# Altium footprint library CPAV.PcbLib: 150 footprints (part 4 of 10)
Each footprint in its own frame and in the unit in brackets; x right, y up, seen from the top. Pads: shape width x height; smd on the part's side, far side on the other; paste and mask are expansions set on the pad; w line width, h text height; cw(c..) or ccw(c..) is an arc to the next point about the centre after c.
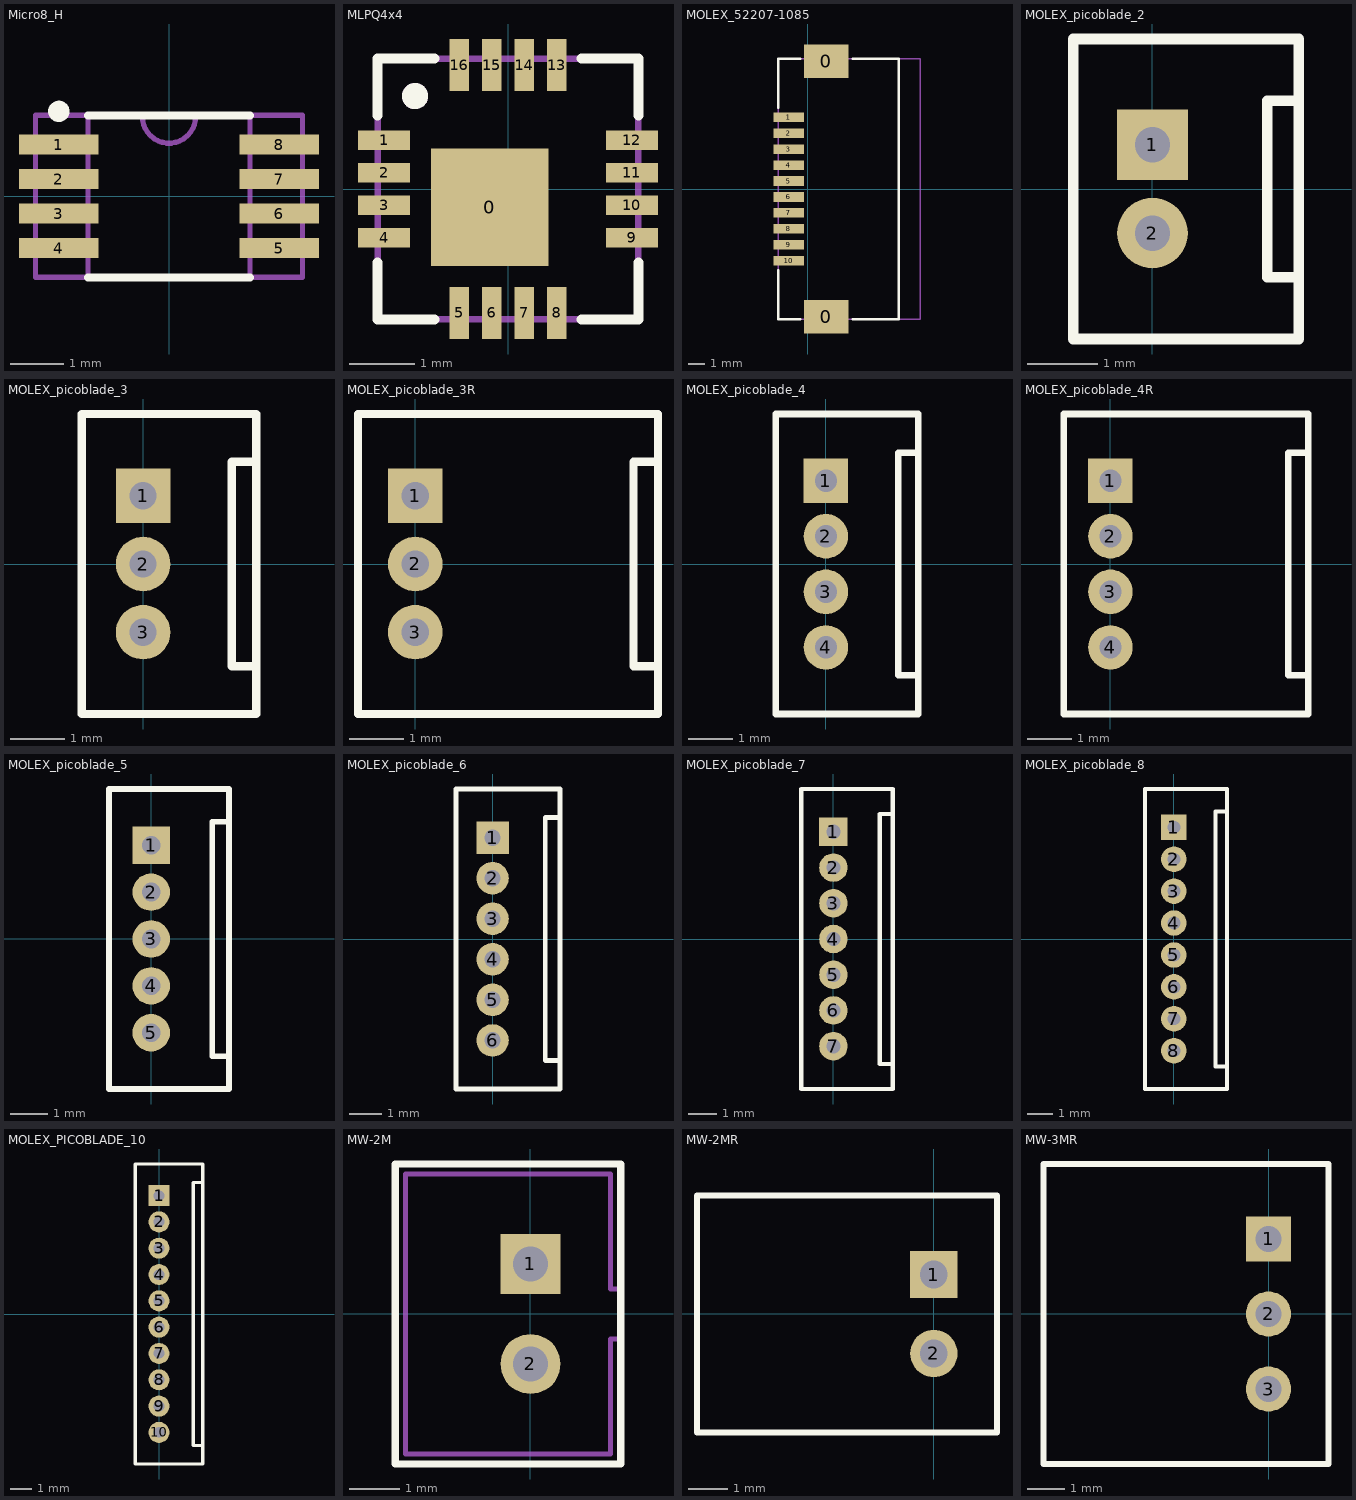
[diagram p3: the footprints below, top view; thin cyan lines are the x and y axes]

## Micro8_H [mm]
height 1.11
pads (8):
  rect 1.5x0.38 smd: 1(-2.075,0.975) 2(-2.075,0.325) 3(-2.075,-0.325) 4(-2.075,-0.975) 5(2.075,-0.975) 6(2.075,-0.325) 7(2.075,0.325) 8(2.075,0.975)
Top Overlay:
  circle w0.2: c-2.075,1.6 r0.1
  lines w0.15: -1.525,-1.525 1.525,-1.525 ; -1.525,1.525 1.525,1.525
Mechanical 7:
  lines w0.1: -1.525,-1.525 -1.525,1.525 ; -0.499,1.525 ccw(c0,1.5) 0.499,1.525 ; 1.525,-1.525 1.525,1.525 ; -2.515,-1.525 2.515,-1.525 2.515,1.525 -2.515,1.525 -2.515,-1.525
Mechanical 10:
  text ".Designator" at -0.67,2.04 h0.8
  text ".Comment" at -0.67,-2.26 h0.6
3D body: height 1.11, standoff 0, extent -1.525,-1.525 1.525,1.525
3D body: height 0.7, standoff 0, extent 1.525,-1.525 2.515,1.525
3D body: height 0.7, standoff 0, extent -2.515,-1.525 -1.525,1.525

## MLPQ4x4 [mm]
height 1
pads (17):
  rect 1.8x1.8 smd: 0(-0.28,-0.28)
  rect 0.8x0.3 smd: 1(-1.9,0.75) 2(-1.9,0.25) 3(-1.9,-0.25) 4(-1.9,-0.75) 9(1.9,-0.75) 10(1.9,-0.25) 11(1.9,0.25) 12(1.9,0.75)
  rect 0.3x0.8 smd: 5(-0.75,-1.9) 6(-0.25,-1.9) 7(0.25,-1.9) 8(0.75,-1.9) 13(0.75,1.9) 14(0.25,1.9) 15(-0.25,1.9) 16(-0.75,1.9)
Top Overlay:
  circle w0.2: c-1.425,1.425 r0.1
  lines w0.15: -2,-1.125 -2,-2 -1.125,-2 ; -2,1.125 -2,2 -1.125,2 ; 1.125,-2 2,-2 2,-1.125 ; 1.125,2 2,2 2,1.125
Mechanical 7:
  circle w0.2: c-1.425,1.425 r0.1
  lines w0.1: -2,-2 -2,2 2,2 2,-2 -2,-2
Mechanical 10:
  text ".Comment" at -0.65,2.775 h0.6
  text ".Designator" at -1.05,3.425 h0.8
3D body: height 1, standoff 0, extent -2,-2 2,2

## MOLEX_52207-1085 [mm]
height 2.7
pads (12):
  rect 2.8x2.1 smd: 0(1.175,-8) 0(1.175,8)
  rect 1.9x0.6 smd: 1(-1.175,4.5) 2(-1.175,3.5) 3(-1.175,2.5) 4(-1.175,1.5) 5(-1.175,0.5) 6(-1.175,-0.5) 7(-1.175,-1.5) 8(-1.175,-2.5) 9(-1.175,-3.5) 10(-1.175,-4.5)
Top Overlay:
  lines w0.15: -1.825,-5.075 -1.825,-8.15 -0.45,-8.15 ; -1.825,5.075 -1.825,8.15 -0.45,8.15 ; 2.825,-8.15 5.725,-8.15 5.725,8.15 2.825,8.15
Mechanical 7:
  lines w0.1: -1.825,-8.15 -1.825,8.15 7.075,8.15 7.075,-8.15 -1.825,-8.15
Mechanical 10:
  text ".Designator" at 0.795,10.18 h0.8
  text ".Comment" at 0.805,9.61 h0.6
3D body "522071085.STEP": height 2.69, standoff -0.01, extent -1.825,-8.15 7.075,8.15

## MOLEX_picoblade_2 [mm]
height 4.2
pads (2):
  rect 1x1 hole 0.5 mask+0.15: 1(0,0.625)
  round 1 hole 0.5 mask+0.15: 2(0,-0.625)
Top Overlay:
  lines w0.15: 2.075,-1.25 1.625,-1.25 1.625,1.25 2.075,1.25 ; -1.125,-2.125 -1.125,2.125 2.075,2.125 2.075,-2.125 -1.125,-2.125
Mechanical 7:
  lines w0.1: 2.075,-1.25 1.625,-1.25 1.625,1.25 2.075,1.25 ; -1.125,-2.125 2.075,-2.125 2.075,2.125 -1.125,2.125 -1.125,-2.125
Mechanical 10:
  text ".Comment" at -0.77,2.485 h0.6
  text ".Designator" at -0.78,3.055 h0.8
3D body "530470210.STEP": height 4.22, standoff -2.18, extent -1.125,-2.125 2.075,2.125

## MOLEX_picoblade_3 [mm]
height 4.2
pads (3):
  rect 1x1 hole 0.5 mask+0.15: 1(0,1.25)
  round 1 hole 0.5 mask+0.15: 2(0,0) 3(0,-1.25)
Top Overlay:
  lines w0.15: 2.075,-1.875 1.625,-1.875 1.625,1.875 2.075,1.875 ; -1.125,-2.75 -1.125,2.75 2.075,2.75 2.075,-2.75 -1.125,-2.75
Mechanical 7:
  lines w0.1: 2.075,-1.875 1.625,-1.875 1.625,1.875 2.075,1.875 ; -1.125,-2.75 -1.125,2.75 2.075,2.75 2.075,-2.75 -1.125,-2.75
Mechanical 10:
  text ".Comment" at -0.77,3.11 h0.6
  text ".Designator" at -0.78,3.68 h0.8
3D body "530470310.STEP": height 4.22, standoff -2.18, extent -1.125,-2.75 2.075,2.75

## MOLEX_picoblade_3R [mm]
height 3.5
pads (3):
  rect 1x1 hole 0.5 mask+0.15: 1(0,1.25)
  round 1 hole 0.5 mask+0.15: 2(0,0) 3(0,-1.25)
Top Overlay:
  lines w0.15: 4.45,-1.875 4,-1.875 4,1.875 4.45,1.875 ; -1.05,-2.75 -1.05,2.75 4.45,2.75 4.45,-2.75 -1.05,-2.75
Mechanical 7:
  lines w0.1: 4.45,-1.875 4,-1.875 4,1.875 4.45,1.875 ; -1.05,-2.75 -1.05,2.75 4.45,2.75 4.45,-2.75 -1.05,-2.75
Mechanical 10:
  text ".Comment" at 0.605,3.16 h0.6
  text ".Designator" at 0.595,3.73 h0.8
3D body "530480310.STEP": height 3.51, standoff -2.29, extent -1.05,-2.75 4.45,2.75

## MOLEX_picoblade_4 [mm]
height 4.2
pads (4):
  rect 1x1 hole 0.5 mask+0.15: 1(0,1.875)
  round 1 hole 0.5 mask+0.15: 2(0,0.625) 3(0,-0.625) 4(0,-1.875)
Top Overlay:
  lines w0.15: 2.075,-2.5 1.625,-2.5 1.625,2.5 2.075,2.5 ; -1.125,-3.375 -1.125,3.375 2.075,3.375 2.075,-3.375 -1.125,-3.375
Mechanical 7:
  lines w0.1: 2.075,-2.5 1.625,-2.5 1.625,2.5 2.075,2.5 ; -1.125,-3.375 -1.125,3.375 2.075,3.375 2.075,-3.375 -1.125,-3.375
Mechanical 10:
  text ".Comment" at -0.77,3.735 h0.6
  text ".Designator" at -0.78,4.305 h0.8
3D body "530470410.STEP": height 4.22, standoff -2.18, extent -1.125,-3.375 2.075,3.375

## MOLEX_picoblade_4R [mm]
height 3.5
pads (4):
  rect 1x1 hole 0.5 mask+0.15: 1(0,1.875)
  round 1 hole 0.5 mask+0.15: 2(0,0.625) 3(0,-0.625) 4(0,-1.875)
Top Overlay:
  lines w0.15: 4.45,-2.5 4,-2.5 4,2.5 4.45,2.5 ; -1.05,-3.375 4.45,-3.375 4.45,3.375 -1.05,3.375 -1.05,-3.375
Mechanical 7:
  lines w0.1: 4.45,-2.5 4,-2.5 4,2.5 4.45,2.5 ; -1.05,-3.375 -1.05,3.375 4.45,3.375 4.45,-3.375 -1.05,-3.375
Mechanical 10:
  text ".Designator" at 0.595,4.355 h0.8
  text ".Comment" at 0.605,3.785 h0.6
3D body "530480410_grey.STEP": height 3.51, standoff -2.29, extent -1.05,-3.375 4.45,3.375

## MOLEX_picoblade_5 [mm]
height 4.2
pads (5):
  rect 1x1 hole 0.5 mask+0.15: 1(0,2.5)
  round 1 hole 0.5 mask+0.15: 2(0,1.25) 3(0,0) 4(0,-1.25) 5(0,-2.5)
Top Overlay:
  lines w0.15: 2.075,-3.125 1.625,-3.125 1.625,3.125 2.075,3.125 ; -1.125,-4 -1.125,4 2.075,4 2.075,-4 -1.125,-4
Mechanical 7:
  lines w0.1: 2.075,-3.125 1.625,-3.125 1.625,3.125 2.075,3.125 ; -1.125,-4 -1.125,4 2.075,4 2.075,-4 -1.125,-4
Mechanical 10:
  text ".Comment" at -0.77,4.36 h0.6
  text ".Designator" at -0.78,4.93 h0.8
3D body "530470510.STEP": height 4.22, standoff -2.18, extent -1.125,-4 2.075,4

## MOLEX_picoblade_6 [mm]
height 4.2
pads (6):
  rect 1x1 hole 0.5 mask+0.15: 1(0,3.125)
  round 1 hole 0.5 mask+0.15: 2(0,1.875) 3(0,0.625) 4(0,-0.625) 5(0,-1.875) 6(0,-3.125)
Top Overlay:
  lines w0.15: 2.075,-3.75 1.625,-3.75 1.625,3.75 2.075,3.75 ; -1.125,-4.625 2.075,-4.625 2.075,4.625 -1.125,4.625 -1.125,-4.625
Mechanical 7:
  lines w0.1: 2.075,-3.75 1.625,-3.75 1.625,3.75 2.075,3.75 ; -1.125,-4.625 2.075,-4.625 2.075,4.625 -1.125,4.625 -1.125,-4.625
Mechanical 10:
  text ".Designator" at -0.78,5.555 h0.8
  text ".Comment" at -0.77,4.985 h0.6
3D body "530470610.STEP": height 4.22, standoff -2.18, extent -1.125,-4.625 2.075,4.625

## MOLEX_picoblade_7 [mm]
height 4.2
pads (7):
  rect 1x1 hole 0.5 mask+0.15: 1(0,3.75)
  round 1 hole 0.5 mask+0.15: 2(0,2.5) 3(0,1.25) 4(0,0) 5(0,-1.25) 6(0,-2.5) 7(0,-3.75)
Top Overlay:
  lines w0.15: 2.075,-4.375 1.625,-4.375 1.625,4.375 2.075,4.375 ; -1.125,-5.25 -1.125,5.25 2.075,5.25 2.075,-5.25 -1.125,-5.25
Mechanical 7:
  lines w0.1: 2.075,-4.375 1.625,-4.375 1.625,4.375 2.075,4.375 ; -1.125,-5.25 -1.125,5.25 2.075,5.25 2.075,-5.25 -1.125,-5.25
Mechanical 10:
  text ".Comment" at -0.77,5.61 h0.6
  text ".Designator" at -0.78,6.18 h0.8
3D body "530470710.STEP": height 4.22, standoff -2.18, extent -1.125,-5.25 2.075,5.25

## MOLEX_picoblade_8 [mm]
height 4.2
pads (8):
  rect 1x1 hole 0.5 mask+0.15: 1(0,4.375)
  round 1 hole 0.5 mask+0.15: 2(0,3.125) 3(0,1.875) 4(0,0.625) 5(0,-0.625) 6(0,-1.875) 7(0,-3.125) 8(0,-4.375)
Top Overlay:
  lines w0.15: 2.075,-5 1.625,-5 1.625,5 2.075,5 ; -1.125,-5.875 -1.125,5.875 2.075,5.875 2.075,-5.875 -1.125,-5.875
Mechanical 7:
  lines w0.1: 2.075,-5 1.625,-5 1.625,5 2.075,5 ; -1.125,-5.875 -1.125,5.875 2.075,5.875 2.075,-5.875 -1.125,-5.875
Mechanical 10:
  text ".Comment" at -0.77,6.235 h0.6
  text ".Designator" at -0.78,6.805 h0.8
3D body "530470810.STEP": height 4.22, standoff -2.18, extent -1.125,-5.875 2.075,5.875

## MOLEX_PICOBLADE_10 [mm]
pads (10):
  rect 1x1 hole 0.5 mask+0.15: 1(0,5.625)
  round 1 hole 0.5 mask+0.15: 2(0,4.375) 3(0,3.125) 4(0,1.875) 5(0,0.625) 6(0,-0.625) 7(0,-1.875) 8(0,-3.125) 9(0,-4.375) 10(0,-5.625)
Top Overlay:
  lines w0.15: 2.075,-6.25 1.625,-6.25 1.625,6.25 2.075,6.25 ; -1.125,-7.125 -1.125,7.125 2.075,7.125 2.075,-7.125 -1.125,-7.125
Mechanical 7:
  lines w0.1: -1.125,-7.125 2.075,-7.125 ; -1.125,-4.625 -1.125,7.125 2.075,7.125 2.075,-4.625 ; 2.075,-6.25 1.625,-6.25 1.625,6.25 2.075,6.25
3D body: height 4.2, standoff 0, extent -1.125,-7.125 2.075,7.125

## MW-2M [mm]
height 6
pads (2):
  rect 1.2x1.2 hole 0.7: 1(0,1)
  round 1.2 hole 0.7: 2(0,-1)
Top Overlay:
  lines w0.15: -2.7,-3 -2.7,3 1.8,3 1.8,-3 -2.7,-3
Mechanical 7:
  lines w0.1: 1.79,0.5 1.6,0.5 1.6,2.8 -2.5,2.8 -2.5,-2.8 1.6,-2.8 1.6,-0.5 1.8,-0.5 ; -2.7,-3 1.8,-3 1.8,3 -2.7,3 -2.7,-3
Mechanical 10:
  text ".Comment" at -1.27,3.41 h0.6
  text ".Designator" at -1.28,3.98 h0.8
3D body: height 6, standoff 0, extent -2.7,-3 1.8,3

## MW-2MR [mm]
height 4.5
pads (2):
  rect 1.2x1.2 hole 0.7: 1(0,1)
  round 1.2 hole 0.7: 2(0,-1)
Top Overlay:
  lines w0.15: -6,-3 -6,3 1.6,3 1.6,-3 -6,-3
Mechanical 7:
  lines w0.1: -6,-3 1.6,-3 1.6,3 -6,3 -6,-3
Mechanical 10:
  text ".Designator" at -3.43,4 h0.8
  text ".Comment" at -3.42,3.43 h0.6
3D body: height 4.5, standoff 0, extent -6,-3 1.6,3

## MW-3MR [mm]
pads (3):
  rect 1.2x1.2 hole 0.7: 1(0,2)
  round 1.2 hole 0.7: 2(0,0) 3(0,-2)
Top Overlay:
  lines w0.15: -6,-4 1.6,-4 1.6,4 -6,4 -6,-4
Mechanical 7:
  lines w0.1: -6,-4 -6,4 1.6,4 1.6,-4 -6,-4
3D body: height 4.5, standoff 0, extent -6,-4 1.6,4